# Altium schematic symbol library SIM_CARD_6P.SchLib: 1 symbol
Pins are listed as number, name and electrical type; pins without a type are passive.

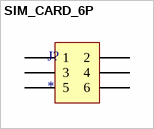
[diagram p0: symbol SIM_CARD_6P]

## SIM_CARD_6P
designator J?
pins: 1, 2, 3, 4, 5, 6